# Altium schematic symbol library L77TSEH09SOL2.SchLib: 1 symbol
Pins are listed as number, name and electrical type; pins without a type are passive.

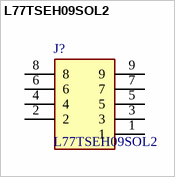
[diagram p0: symbol L77TSEH09SOL2]

## L77TSEH09SOL2
designator J?
Dsub, Stamped Signal 3A, Straight PCB Thru Hole Low Profile, Height=6.02mm (.237in), 9 Socket, Bright Tin Shell, Flash Gold, 4-40 Threaded Rear Insert; Manufacturer_Name: Amphenol Communications Solutions; Geometry.Height: 12.12mm; Mouser Part Number: 523-L77TSEH09SOL2; Mouser Price/Stock: https://www.mouser.co.uk/ProductDetail/Amphenol-Commercial-Products/L77TSEH09SOL2?qs=mq7kV%2Fq8lk7ZB3R56yxKcg%3D%3D; Manufacturer_Part_Number: L77TSEH09SOL2; Datasheet Link: https://cdn.amphenol-cs.com/media/wysiwyg/files/drawing/l77tsxhxxsol2.pdf
footprint L77TSEH09SOL2
pins: 1, 2, 3, 4, 5, 6, 7, 8, 9